# Altium schematic symbol library 1N5819.SchLib: 1 symbol
Pins are listed as number, name and electrical type; pins without a type are passive.

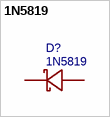
[diagram p0: symbol 1N5819]

## 1N5819
designator D?
肖特基二极管; spicePre: D
footprint SOD323
footprint SOD123
footprint SOD523
footprint SOD723
pins: 1 A, 2 K